# Altium footprint library POGO_4PIN.PcbLib: 1 footprints
Each footprint in its own frame and in the unit in brackets; x right, y up, seen from the top. Pads: shape width x height; smd on the part's side, far side on the other; paste and mask are expansions set on the pad; w line width, h text height; cw(c..) or ccw(c..) is an arc to the next point about the centre after c.
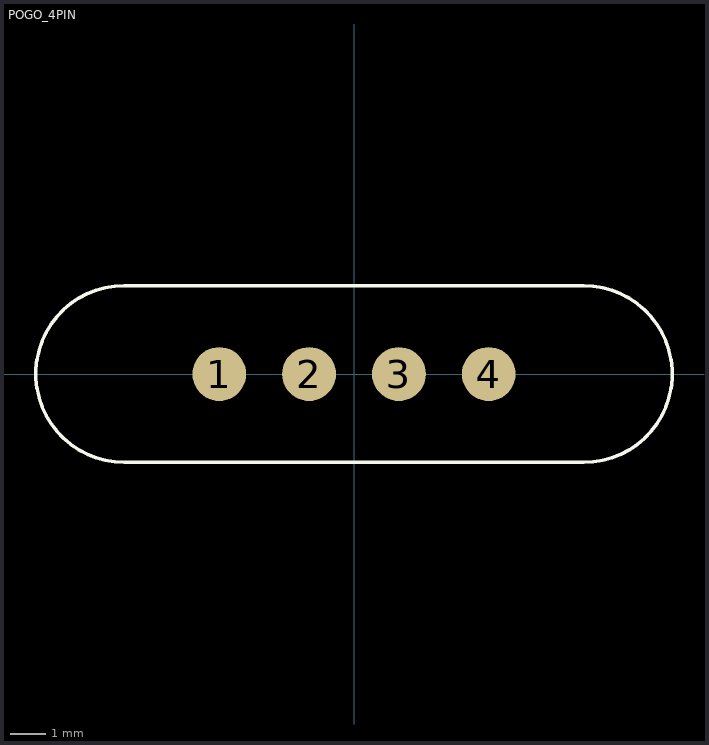
[diagram p0: the footprint, top view; thin cyan lines are the x and y axes]

## POGO_4PIN [mil]
pads (4):
  round 60 smd: 1(-150,0) 2(-50,0) 3(50,0) 4(150,0)
Top Overlay:
  lines w3.94: -255.86,-98.35 255.86,-98.35 ; -255.86,-98.27 cw(c-255.86,0.15) -255.86,98.58 ; -255.86,98.5 255.86,98.5 ; 255.86,-98.43 ccw(c255.86,0) 255.86,98.43